# EAGLE library part DUCKYPAD_SM12B-SSR-H-TB (library duckypad)
Disconnectable Insulation displacement connector, 1.0mm pitch 12 contacts
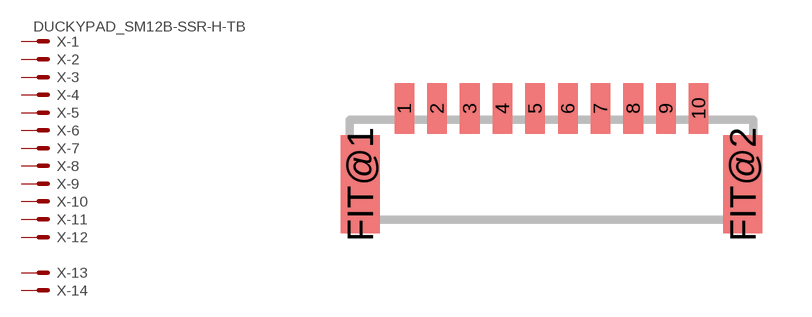
[diagram p3: symbol with the pads of DUCKYPAD_SM12B-SSR-H-TB; footprint DUCKYPAD_SM12B-SSR-H-TB]

Designator prefix X; gates -1=DUCKYPAD_KV -2=DUCKYPAD_K -3=DUCKYPAD_K -4=DUCKYPAD_K -5=DUCKYPAD_K -6=DUCKYPAD_K -7=DUCKYPAD_K -8=DUCKYPAD_K -9=DUCKYPAD_K -10=DUCKYPAD_K -11=DUCKYPAD_K -12=DUCKYPAD_K -13=DUCKYPAD_K -14=DUCKYPAD_K

## DUCKYPAD_SM12B-SSR-H-TB  [DUCKYPAD_SM12B-SSR-H-TB]
1  -1:S  pas
2  -2:S  pas
3  -3:S  pas
4  -4:S  pas
5  -5:S  pas
6  -6:S  pas
7  -7:S  pas
8  -8:S  pas
9  -9:S  pas
10  -10:S  pas
FIT@1  -13:S  pas
FIT@2  -14:S  pas

## Footprint DUCKYPAD_SM12B-SSR-H-TB (pad centres in mm)
Shrouded Header
smd 0.6 x 1.55: 1 -4.5,1.925; 2 -3.5,1.925; 3 -2.5,1.925; 4 -1.5,1.925; 5 -0.5,1.925; 6 0.5,1.925; 7 1.5,1.925; 8 2.5,1.925; 9 3.5,1.925; 10 4.5,1.925
smd 1.2 x 3: FIT@1 -5.85,-0.4; FIT@2 5.85,-0.4